# Altium schematic symbol library Components - 30.03.22 - 09.35.SchLib: 1 symbol
Pins are listed as number, name and electrical type; pins without a type are passive.

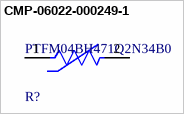
[diagram p0: symbol CMP-06022-000249-1]

## CMP-06022-000249-1
designator R?, comment PTFM04BH471Q2N34B0
Thermistor PTC 470Ω 2-Pin Screw Mount Radial Bulk; Tolerance: 20%; Voltage: 16V; Current Rating: 100mA; Lead Length: 39mm; Resistance: 100R; Package Quantity: 200; Depth: 3mm; Operating Supply Voltage: 16V; Termination: Radial; Min Operating Temperature: -10°C; Packaging: Bulk; Length: 7.5mm; Number of Pins: 2; Mount: Through Hole; Max Operating Temperature: 130°C; Case/Package: Radial; Max Supply Voltage: 16V; REACH SVHC: No SVHC; Lead Free: Lead Free; Radiation Hardening: No
footprint FP-PTFM04_2N34-MFG
pins: 1, 2